# EAGLE library part WG16080 (library lcd)
Controller: LC7981 LSI LCD type: STN Positive; Transflective , Gray ITEM STANDARD VALUE Number of Dots: 160*80 Module dimension: 93.0 x70.0 x 13.6(MAX)mm View area: 72.0 x 40.0mm Active area: 67.17 x 33.57 mm Dot size: (L)0.39×(W)0.39 mm Dot pitch: (L)0.42×(W)0.42mm
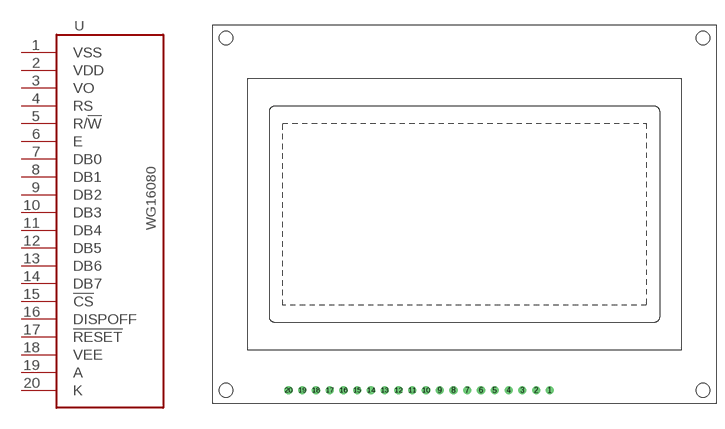
[diagram p4: symbol with the pads of P_WG16080A; footprint P_WG16080A]

Designator prefix -

## WG16080A  [P_WG16080A]
1  VSS  pwr
2  VDD  pwr
3  VO  pwr
4  RS  in
5  R/!W  in
6  E  in
7  DB0
8  DB1
9  DB2
10  DB3
11  DB4
12  DB5
13  DB6
14  DB7
15  !CS  in
16  DISPOFF  in
17  !RESET  in
18  VEE  out
19  A  pas
20  K  pas

## Footprint P_WG16080A (pad centres in mm)
drill 1 round: 1 15.76,-32.5; 2 13.22,-32.5; 3 10.68,-32.5; 4 8.14,-32.5; 5 5.6,-32.5; 6 3.06,-32.5; 7 0.52,-32.5; 8 -2.02,-32.5; 9 -4.56,-32.5; 10 -7.1,-32.5; 11 -9.64,-32.5; 12 -12.18,-32.5; 13 -14.72,-32.5; 14 -17.26,-32.5; 15 -19.8,-32.5; 16 -22.34,-32.5; 17 -24.88,-32.5; 18 -27.42,-32.5; 19 -29.96,-32.5; 20 -32.5,-32.5
hole 2.5 at -44,-32.5
hole 2.5 at 44,-32.5
hole 2.5 at -44,32.5
hole 2.5 at 44,32.5